# Altium schematic symbol library 5-535541-7.SchLib: 1 symbol
Pins are listed as number, name and electrical type; pins without a type are passive.

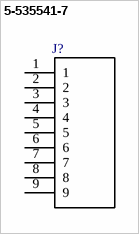
[diagram p0: symbol 5-535541-7]

## 5-535541-7
designator J?  (value not drawn)
09 MODIV VRT SR CE 100/115; MF: TE Connectivity; Package: None; EU_RoHS_Compliance: Compliant; TE_purchase_URL: https://www.te.com/usa-en/product-5-535541-7.html?te_bu=Cor&te_type=disp&te_campaign=seda_glo_cor-seda-global-disp-prtnr-fy19-seda-model-bom-cta_sma-317_1&elqCampaignId=32493; MP: 5-535541-7; Price: None; Availability: Unavailable; SnapEDA_Link: https://www.snapeda.com/parts/5-535541-7/TE%20Connectivity%20AMP%20Connectors/view-part/?ref=snap; Value: *
footprint *TE_5-535541-7
pins: 1, 2, 3, 4, 5, 6, 7, 8, 9